# EAGLE library part LMC6482 (library foe-scale)
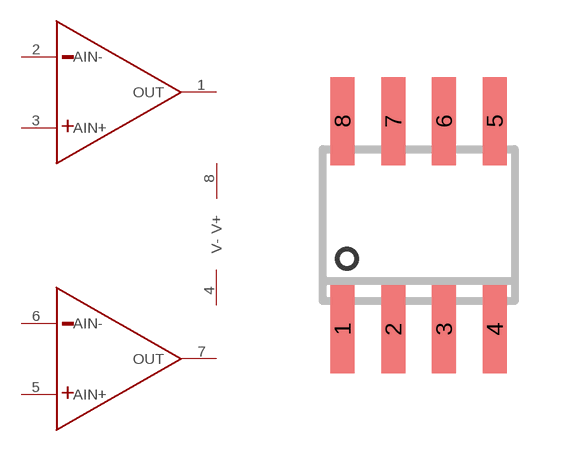
[diagram p3: symbol with the pads of SOIC8; footprint SOIC8]

Designator prefix -; gates G$1=LMC6482 G$2=LMC6482 G$3=PS

## LMC6482  [SOIC8]
1  G$1:OUT
2  G$1:AIN-
3  G$1:AIN+
4  G$3:V-
5  G$2:AIN+
6  G$2:AIN-
7  G$2:OUT
8  G$3:V+

## Footprint SOIC8 (pad centres in mm)
Small Outline IC
smd 0.6 x 2.2: 1 -1.905,-2.6; 2 -0.635,-2.6; 3 0.635,-2.6; 4 1.905,-2.6; 5 1.905,2.6; 6 0.635,2.6; 7 -0.635,2.6; 8 -1.905,2.6